# EAGLE library part TB6612FNG (library AutoPark)
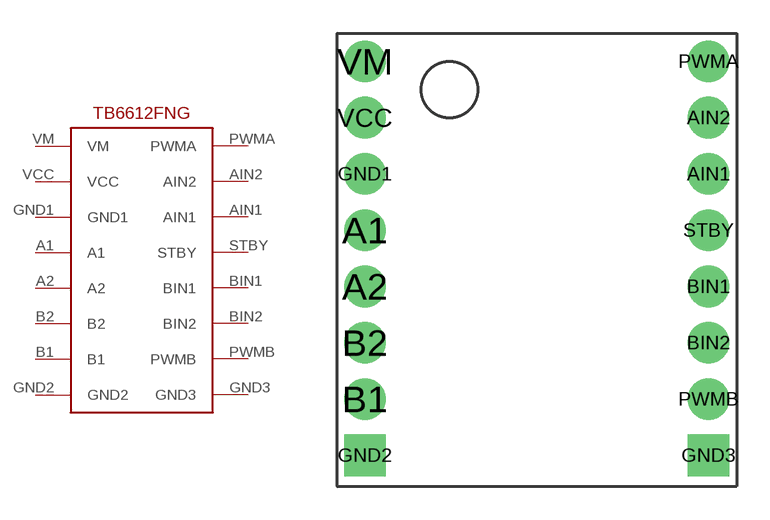
[diagram p3: symbol with the pads of TB6612FNG; footprint TB6612FNG]

Designator prefix TB6612

## TB6612FNG  [TB6612FNG]
A1  A1
A2  A2
AIN1  AIN1
AIN2  AIN2
B1  B1
B2  B2
BIN1  BIN1
BIN2  BIN2
GND1  GND1
GND2  GND2
GND3  GND3
PWMA  PWMA
PWMB  PWMB
STBY  STBY
VCC  VCC
VM  VM

## Footprint TB6612FNG (pad centres in mm)
drill 1.016 pad 1.88: A1 -7.62,-1.27; A2 -7.62,-3.81; AIN1 7.874,1.27; AIN2 7.874,3.81; B1 -7.62,-8.89; B2 -7.62,-6.35; BIN1 7.874,-3.81; BIN2 7.874,-6.35; GND1 -7.62,1.27; PWMA 7.874,6.35; PWMB 7.874,-8.89; STBY 7.874,-1.27; VCC -7.62,3.81; VM -7.62,6.35
drill 1.016 pad 1.88 square: GND2 -7.62,-11.43; GND3 7.874,-11.43